# Altium integrated library TMK212BJ475KG-T.IntLib: 1 symbol
Pins are listed as number, name and electrical type; pins without a type are passive.

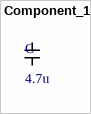
[diagram p0: symbol Component_1]

## Component_1
designator C, comment 4.7u
Buying URL: https://uk.farnell.com/taiyo-yuden/tmk212bj475kg-t/cap-4-7-f-25v-10-x5r-0805/dp/2112757?iscrfnonsku=true&st=LD053D475KAB2A
pins: 1, 2